# EAGLE library part SN74HC595N (library SN74HC595N)
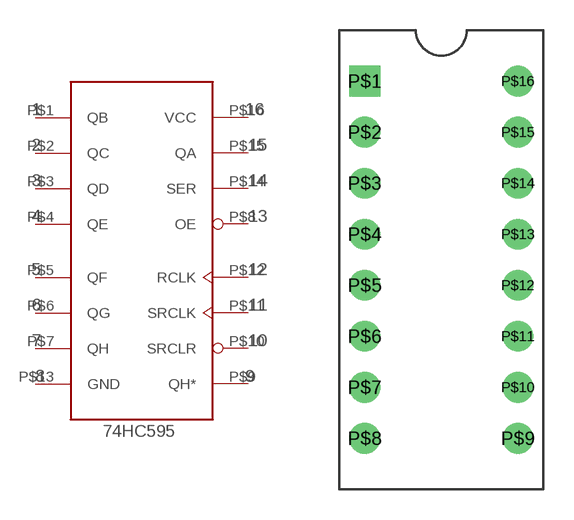
[diagram p0: symbol with the pads of DIP-16; footprint DIP-16]

Designator prefix -

## SN74HC595NDIP-16 (AVAILABILITY: Unavailable; DESCRIPTION: Shift Register Single 8 Bit Serial To Serial Parallel 16 Pin Plastic DIP Tube; MF: Texas Instruments; MP: SN74HC595N; PACKAGE: PDIP-16 Texas Instruments; PRICE: None)  [DIP-16]
P$1  QB
P$2  QC
P$3  QD
P$4  QE
P$5  QF
P$6  QG
P$7  QH
P$8  OE
P$9  QH*
P$10  SRCLR
P$11  SRCLK
P$12  RCLK  in
P$13  GND
P$14  SER
P$15  QA
P$16  VCC

## Footprint DIP-16 (pad centres in mm)
drill 1.016 square: P$1 -3.81,8.89
drill 1.016: P$2 -3.81,6.35; P$3 -3.81,3.81; P$4 -3.81,1.27; P$5 -3.81,-1.27; P$6 -3.81,-3.81; P$7 -3.81,-6.35; P$8 -3.81,-8.89; P$9 3.81,-8.89; P$10 3.81,-6.35; P$11 3.81,-3.81; P$12 3.81,-1.27; P$13 3.81,1.27; P$14 3.81,3.81; P$15 3.81,6.35; P$16 3.81,8.89